# EAGLE library part 7490240142 (library WE-LAN)
WE-LAN LAN Transformer Characteristics Suitable for industrial temperatures from –40 °C up to +125 °C Different version available from 1.5 kV isolation to 6 kV. HPLE version Additional CMC for higher attenuation Non PoE, PoE and PoE++ up to 2 A PoE up to 150 W and speeds up to 1 Gbit/s Available in SMT Compliant with standards: IEEE 802.3u, IEEE 802.3ab, IEEE 802.3af, IEEE 802.3at and IEEE 802.3bt UL Recognized Applications Compatible to Industrial Ethernet systems like EtherCAT or Profinet Compliant with most IC’s for Ethernet applications such as Microchip, Texas Instruments, Broadcom, Linear Technology Router, switches, sensors, robotics, automation, IP cameras, IoT applications Details see: www.we-online.com/en/components/products/WE-LAN Created by Ella Wu, 2020-07-08 2020 (C) Würth Elektronik
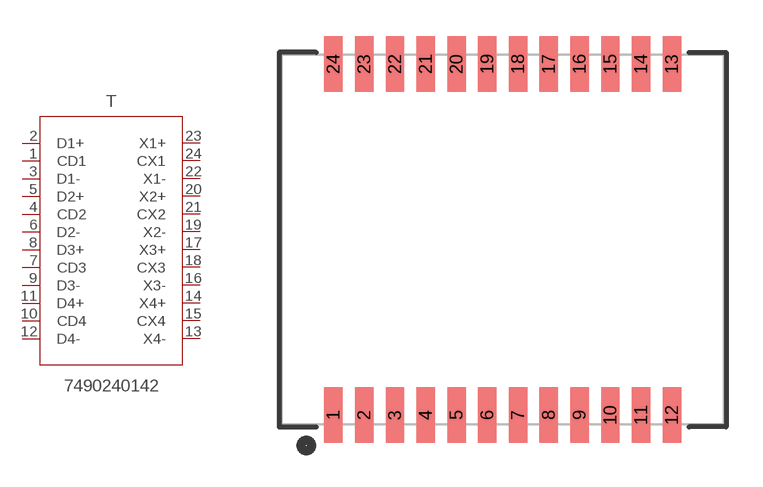
[diagram p10: symbol with the pads of 7490240142; footprint 7490240142]

Designator prefix T

## 7490240142 (DATA-RATE: 1000 Base-T; DATASHEET: https://www.we-online.com/redexpert/spec/7490240142?ae; HPLE: No; IMPROVED-CMRR: No; L: 350 uH; MOUNT: SMT; OPERATING-TEMPERATURE: -40 °C up to +85 °C; PART-NUMBER: 7490240142; POE: non-PoE; PORTS: 1; VALUE: 7490240142; VT: 4000 V (RMS))  [7490240142]
1  CD1  pas
2  D1+  pas
3  D1-  pas
4  CD2  pas
5  D2+  pas
6  D2-  pas
7  CD3  pas
8  D3+  pas
9  D3-  pas
10  CD4  pas
11  D4+  pas
12  D4-  pas
13  X4-  pas
14  X4+  pas
15  CX4  pas
16  X3-  pas
17  X3+  pas
18  CX3  pas
19  X2-  pas
20  X2+  pas
21  CX2  pas
22  X1-  pas
23  X1+  pas
24  CX1  pas

## Footprint 7490240142 (pad centres in mm)
WE-LAN LAN Transformer 1000 Base-T, 1Port, SMT
smd 0.76 x 2.29: 1 -6.985,-7.24; 2 -5.715,-7.24; 3 -4.445,-7.24; 4 -3.175,-7.24; 5 -1.905,-7.24; 6 -0.635,-7.24; 7 0.635,-7.24; 8 1.905,-7.24; 9 3.175,-7.24; 10 4.445,-7.24; 11 5.715,-7.24; 12 6.985,-7.24; 13 6.985,7.24; 14 5.715,7.24; 15 4.445,7.24; 16 3.175,7.24; 17 1.905,7.24; 18 0.635,7.24; 19 -0.635,7.24; 20 -1.905,7.24; 21 -3.175,7.24; 22 -4.445,7.24; 23 -5.715,7.24; 24 -6.985,7.24